# EAGLE library part MM74HCT374WM (library Fairchild_By_element14_Batch_1)
Octal D-Type Flip-Flop
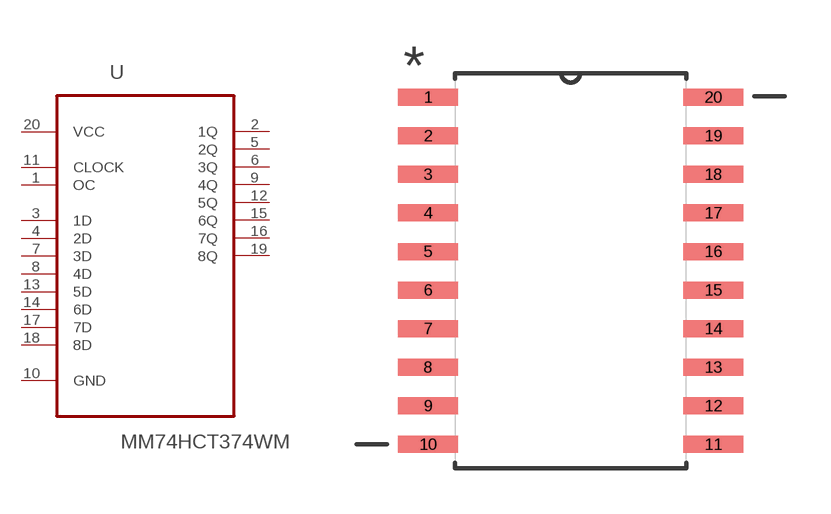
[diagram p330: symbol with the pads of SOIC127P1032X264-20N; footprint SOIC127P1032X264-20N]

Designator prefix U

## MM74HCT374WM (MPN: MM74HCT374WM; OC_FARNELL: 1014010; OC_NEWARK: 78K6051; PACKAGE: SOIC-20; SUPPLIER: Fairchild Semiconductor)  [SOIC127P1032X264-20N]
1  OC  in
2  1Q  out
3  1D  in
4  2D  in
5  2Q  out
6  3Q  out
7  3D  in
8  4D  in
9  4Q  out
10  GND  pas
11  CLOCK  in
12  5Q  out
13  5D  in
14  6D  in
15  6Q  out
16  7Q  out
17  7D  in
18  8D  in
19  8Q  out
20  VCC  pwr

## Footprint SOIC127P1032X264-20N (pad centres in mm)
smd 1.981 x 0.559: 1 -4.699,5.715; 2 -4.699,4.445; 3 -4.699,3.175; 4 -4.699,1.905; 5 -4.699,0.635; 6 -4.699,-0.635; 7 -4.699,-1.905; 8 -4.699,-3.175; 9 -4.699,-4.445; 10 -4.699,-5.715; 11 4.699,-5.715; 12 4.699,-4.445; 13 4.699,-3.175; 14 4.699,-1.905; 15 4.699,-0.635; 16 4.699,0.635; 17 4.699,1.905; 18 4.699,3.175; 19 4.699,4.445; 20 4.699,5.715